# Altium footprint library DIP28.PCBLIB: 1 footprints
Each footprint in its own frame and in the unit in brackets; x right, y up, seen from the top. Pads: shape width x height; smd on the part's side, far side on the other; paste and mask are expansions set on the pad; w line width, h text height; cw(c..) or ccw(c..) is an arc to the next point about the centre after c.
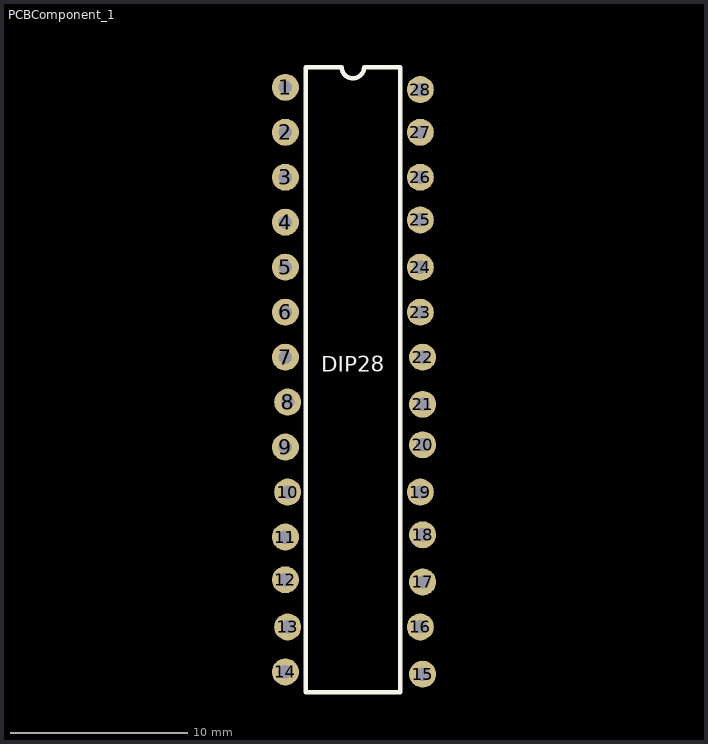
[diagram p0: the footprint, top view; thin cyan lines are the x and y axes]

## PCBComponent_1 [mil]
pads (28):
  round 60 hole 30: 1(8500,11200) 2(8500,11100) 3(8500,11000) 4(8500,10900) 5(8500,10800) 6(8500,10700) 7(8500,10600) 8(8505,10500) 9(8500,10400) 10(8505,10300) 11(8500,10200) 12(8500,10105) 13(8505,10000) 14(8500,9900) 15(8805,9895) 16(8800,10000) 17(8805,10100) 18(8805,10205) 19(8800,10300) 20(8805,10405) 21(8805,10495) 22(8805,10600) 23(8800,10700) 24(8800,10800) 25(8800,10905) 26(8800,11000) 27(8800,11100) 28(8800,11195)
Top Overlay:
  lines w10: 8545,9855 8545,11240 8545,11245 8550,11245 8625,11245 ccw(c8650,11245) 8650,11220 ccw(c8650,11245) 8675,11245 8755,11245 8755,11230 8755,9875 8755,9855 8735,9855 8550,9855 8545,9855
  text "DIP28" at 8580,10555 h60